# Altium schematic symbol library Linear.SchLib: 4 symbols
Pins are listed as number, name and electrical type; pins without a type are passive.

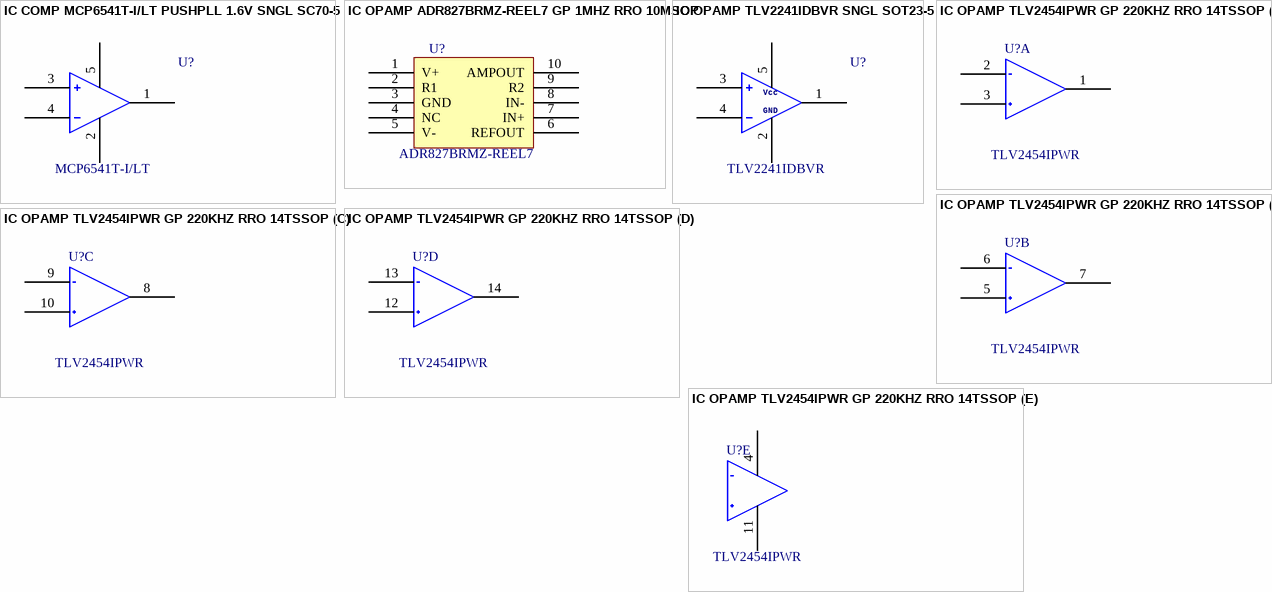
[diagram p0: symbols IC COMP MCP6541T-I/LT PUSHPLL 1.6V SNGL SC70-5 to IC OPAMP TLV2454IPWR GP 220KHZ RRO 14TSSOP]

## IC COMP MCP6541T-I/LT PUSHPLL 1.6V SNGL SC70-5
designator U?  value MCP6541T-I/LT  (hidden comment: *)
Comparator General Purpose CMOS, Push-Pull, Rail-to-Rail, TTL SC-70-5; PartNumber1: MCP6541T-I/LT
footprint SC70-5
pins: 1 OUT, 2 V- (power), 3 IN+, 4 IN-, 5 V+ (power)

## IC OPAMP ADR827BRMZ-REEL7 GP 1MHZ RRO 10MSOP
designator U?  value ADR827BRMZ-REEL7
General Purpose Amplifier 1 Circuit Rail-to-Rail 10-MSOP; PartNumber1: ADR827BRMZ-REEL7
footprint MSOP10
pins: 1 V+ (power), 2 R1 (power), 3 GND (power), 4 NC (power), 5 V- (power), 6 REFOUT (power), 7 IN+ (power), 8 IN- (power), 9 R2 (power), 10 AMPOUT (power)

## IC OPAMP TLV2241IDBVR SNGL SOT23-5
designator U?  value TLV2241IDBVR  (hidden comment: *)
General Purpose Amplifier 1 Circuit Rail-to-Rail SOT-23-5; PartNumber1: MCP6541T-I/LT
footprint SOT23-5
pins: 1 OUT, 2 V- (power), 3 IN+, 4 IN-, 5 V+ (power)
text: Vcc; GND

## IC OPAMP TLV2454IPWR GP 220KHZ RRO 14TSSOP
designator U?  value TLV2454IPWR  (hidden comment: *)
General Purpose Amplifier 4 Circuit Rail-to-Rail 14-TSSOP; PartNumber1: TLV2454IPWR
footprint TSSOP14 (Footprint not found)
part A pins: 1 OUTA, 2 INA-, 3 INA+
part B pins: 5 INB+, 6 INB-, 7 OUTB
part C pins: 8 OUTC, 9 INC-, 10 INC+
part D pins: 12 IND+, 13 IND-, 14 OUTD
part E pins: 4 VDD (power), 11 VSS (power)